# EAGLE library part WD33C93_PLCC (library Amiga)
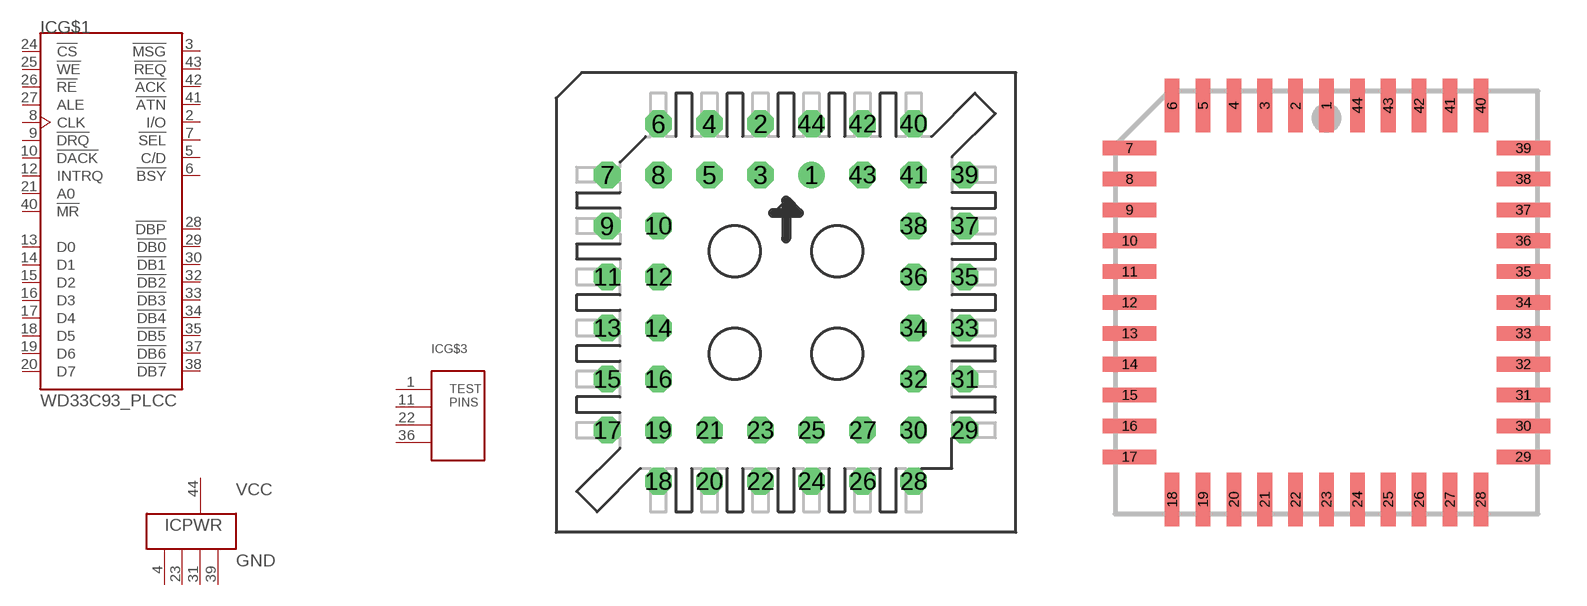
[diagram p14: symbol with the pads of PLCC44_T; footprints PLCC44_T, PLCC44_S]

Designator prefix IC; gates G$1=WD33C93 PWR=1VCC-4GND G$3=WD33C93_TEST

## WD33C93_PLCC_THT  [PLCC44_T]
1  G$3:P$1  in
2  G$1:I/O
3  G$1:!MSG
4  PWR:GND  pwr
5  G$1:C/D
6  G$1:!BSY
7  G$1:!SEL
8  G$1:CLK  in
9  G$1:!DRQ
10  G$1:!DACK
11  G$3:P$2  in
12  G$1:INTRQ
13  G$1:D0
14  G$1:D1
15  G$1:D2
16  G$1:D3
17  G$1:D4
18  G$1:D5
19  G$1:D6
20  G$1:D7
21  G$1:A0
22  G$3:P$3  in
23  PWR:GND  pwr
24  G$1:!CS
25  G$1:!WE
26  G$1:!RE
27  G$1:ALE
28  G$1:!DBP
29  G$1:!DB0
30  G$1:!DB1
31  PWR:GND  pwr
32  G$1:!DB2
33  G$1:!DB3
34  G$1:!DB4
35  G$1:!DB5
36  G$3:P$4  in
37  G$1:!DB6
38  G$1:!DB7
39  PWR:GND  pwr
40  G$1:!MR
41  G$1:!ATN
42  G$1:!ACK
43  G$1:!REQ
44  PWR:VCC  pwr

## WD33C93_PLCC_SMD  [PLCC44_S]
Pads as for PLCC44_T

## Footprint PLCC44_T (pad centres in mm)
drill 0.813: 1 1.27,6.35
drill 0.813 octagon: 2 -1.27,8.89; 3 -1.27,6.35; 4 -3.81,8.89; 5 -3.81,6.35; 6 -6.35,8.89; 7 -8.89,6.35; 8 -6.35,6.35; 9 -8.89,3.81; 10 -6.35,3.81; 11 -8.89,1.27; 12 -6.35,1.27; 13 -8.89,-1.27; 14 -6.35,-1.27; 15 -8.89,-3.81; 16 -6.35,-3.81; 17 -8.89,-6.35; 18 -6.35,-8.89; 19 -6.35,-6.35; 20 -3.81,-8.89; 21 -3.81,-6.35; 22 -1.27,-8.89; 23 -1.27,-6.35; 24 1.27,-8.89; 25 1.27,-6.35; 26 3.81,-8.89; 27 3.81,-6.35; 28 6.35,-8.89; 29 8.89,-6.35; 30 6.35,-6.35; 31 8.89,-3.81; 32 6.35,-3.81; 33 8.89,-1.27; 34 6.35,-1.27; 35 8.89,1.27; 36 6.35,1.27; 37 8.89,3.81; 38 6.35,3.81; 39 8.89,6.35; 40 6.35,8.89; 41 6.35,6.35; 42 3.81,8.89; 43 3.81,6.35; 44 1.27,8.89

## Footprint PLCC44_S (pad centres in mm)
PLASTIC LEADED CHIP CARRIER square
smd 0.6 x 2.2: 1 0,8.1; 2 -1.27,8.1; 3 -2.54,8.1; 4 -3.81,8.1; 5 -5.08,8.1; 6 -6.35,8.1; 18 -6.35,-8.1; 19 -5.08,-8.1; 20 -3.81,-8.1; 21 -2.54,-8.1; 22 -1.27,-8.1; 23 0,-8.1; 24 1.27,-8.1; 25 2.54,-8.1; 26 3.81,-8.1; 27 5.08,-8.1; 28 6.35,-8.1; 40 6.35,8.1; 41 5.08,8.1; 42 3.81,8.1; 43 2.54,8.1; 44 1.27,8.1
smd 2.2 x 0.6: 7 -8.1,6.35; 8 -8.1,5.08; 9 -8.1,3.81; 10 -8.1,2.54; 11 -8.1,1.27; 12 -8.1,0; 13 -8.1,-1.27; 14 -8.1,-2.54; 15 -8.1,-3.81; 16 -8.1,-5.08; 17 -8.1,-6.35; 29 8.1,-6.35; 30 8.1,-5.08; 31 8.1,-3.81; 32 8.1,-2.54; 33 8.1,-1.27; 34 8.1,0; 35 8.1,1.27; 36 8.1,2.54; 37 8.1,3.81; 38 8.1,5.08; 39 8.1,6.35